# Altium footprint library button_red_3x6.PcbLib: 1 footprints
Each footprint in its own frame and in the unit in brackets; x right, y up, seen from the top. Pads: shape width x height; smd on the part's side, far side on the other; paste and mask are expansions set on the pad; w line width, h text height; cw(c..) or ccw(c..) is an arc to the next point about the centre after c.
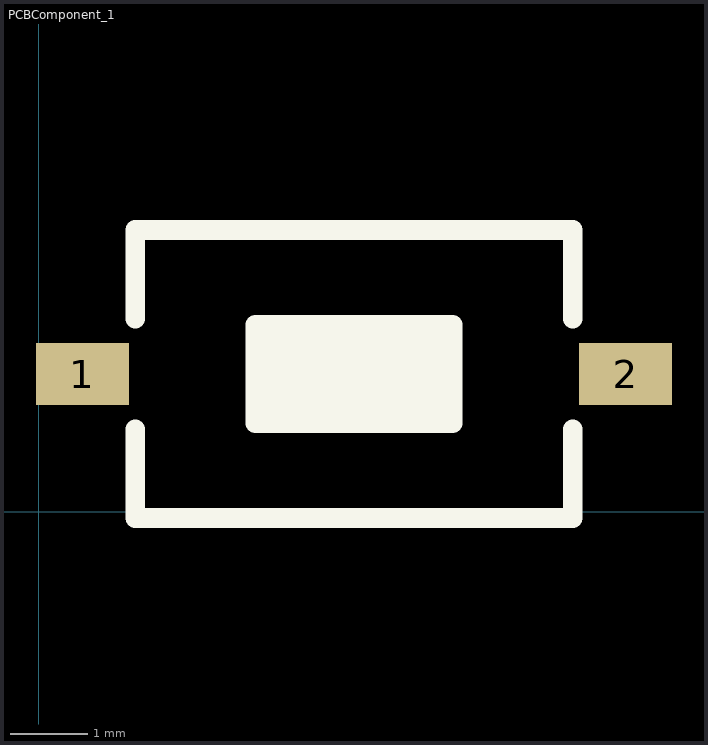
[diagram p0: the footprint, top view; thin cyan lines are the x and y axes]

## PCBComponent_1 [mm]
pads (2):
  rect 1.2x0.8 smd: 1(0.564,1.778) 2(7.564,1.778)
Top Overlay:
  rectangle: 2.794,1.143 5.334,2.413
  lines w0.254: 1.245,1.067 1.245,-0.076 6.883,-0.076 6.883,1.067 ; 1.245,2.489 1.245,3.632 6.883,3.632 6.883,2.489 ; 2.794,1.143 2.794,2.413 5.334,2.413 5.334,1.143 2.794,1.143
3D body "User Library-Button-SMD.step": height 2.5, standoff 0, extent 1.014,-0.072 7.114,3.628